# EAGLE library part WL-T7DS_0.56INCH_COMMON-ANODE (library WL-T7DS)
WL-T7DS 7 Segments Display THT Single Digit Characteristics Industrial standard size and schematic Low power consumption Grey surface Milky / Diffuesed segments Driving with DC current in forward direction only Suitable for high peak current upto 100 mA Applications Audio / measure equipment Instrument panels Digital read out display Control units <https://www.we-online.com/catalog/media/o447285v209%20WL_T7DS_Group.jpg> Details see: www.we-online.com/catalog/WL-T7DS <www.we-online.com/catalog/WL-T7DS/?utm_source=eagle_model&utm_medium=description_link&utm_campaign=eisos_eagle> Updated by Ella Wu, 2021-09-06 2022 (C) Wurth Elektronik
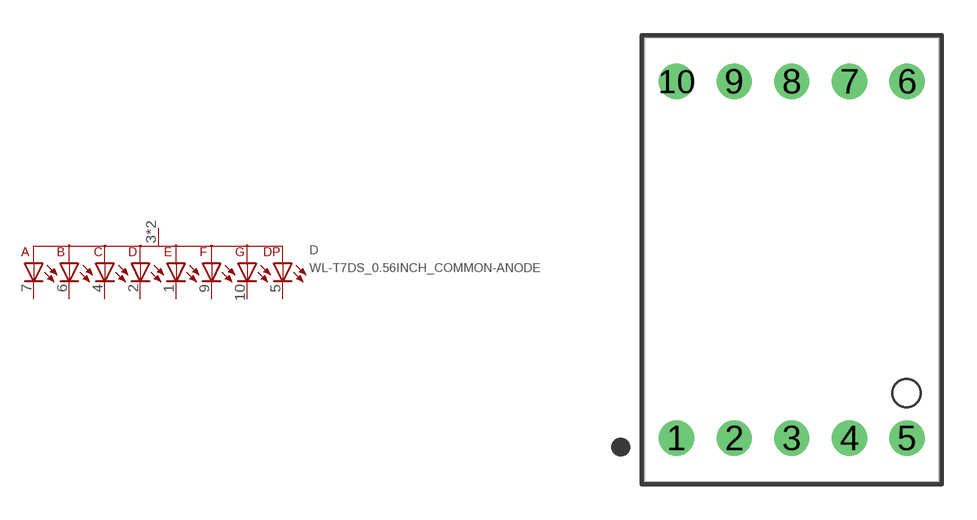
[diagram p1: symbol with the pads of WL-T7DS_0.56INCH; footprint WL-T7DS_0.56INCH]

Designator prefix D

## WL-T7DS_0.56INCH_COMMON-ANODE_157142B12803 (CIRCUITRY: Common Anode; DATASHEET-URL: https://www.we-online.com/redexpert/spec/157142B12803?ae; EMITTING-COLOR: Blue; HEIGHT: 9mm; IV-TYP: 32mcd; LENGTH: 19mm; PART-NUMBER: 157142B12803; VALUE: 157142B12803; VF-TYP: 3V; WIDTH: 12.6mm), WL-T7DS_0.56INCH_COMMON-ANODE_157142S12803 (CIRCUITRY: Common Anode; DATASHEET-URL: https://www.we-online.com/redexpert/spec/157142S12803?ae; EMITTING-COLOR: Super Red; HEIGHT: 7.9mm; IV-TYP: 38mcd; LENGTH: 19mm; PART-NUMBER: 157142S12803; VALUE: 157142S12803; VF-TYP: 2V; WIDTH: 12.6mm), WL-T7DS_0.56INCH_COMMON-ANODE_157142V12803 (CIRCUITRY: Common Anode; DATASHEET-URL: https://www.we-online.com/redexpert/spec/157142V12803?ae; EMITTING-COLOR: Bright Green; HEIGHT: 7.9mm; IV-TYP: 46mcd; LENGTH: 19mm; PART-NUMBER: 157142V12803; VALUE: 157142V12803; VF-TYP: 2.2V; WIDTH: 12.6mm)  [WL-T7DS_0.56INCH]
1  1  pas
2  2  pas
3  +  pas
4  4  pas
5  5  pas
6  6  pas
7  7  pas
8  +  pas
9  9  pas
10  10  pas

## Footprint WL-T7DS_0.56INCH (pad centres in mm)
WL-T7DS 7 Segments Display THT Single Digit Size: 0.52inch, THT, 8pins L X W X H=19mm X 12.6mm X 7.9mm
drill 1: 1 -4.92,-7.62; 2 -2.46,-7.62; 3 0,-7.62; 4 2.46,-7.62; 5 4.92,-7.62; 6 4.92,7.62; 7 2.46,7.62; 8 0,7.62; 9 -2.46,7.62; 10 -4.92,7.62